# Altium footprint library Midas.PcbLib: 2 footprints
Each footprint in its own frame and in the unit in brackets; x right, y up, seen from the top. Pads: shape width x height; smd on the part's side, far side on the other; paste and mask are expansions set on the pad; w line width, h text height; cw(c..) or ccw(c..) is an arc to the next point about the centre after c.
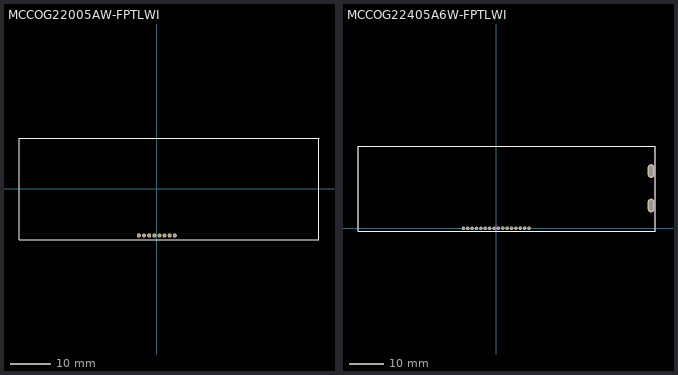
[diagram p0: the footprints below, top view; thin cyan lines are the x and y axes]

## MCCOG22005AW-FPTLWI [mm] "Alphanumeric LCD, 20x2"
pads (8):
  round 1 hole 0.6: 1(-4.45,-11.5) 2(-3.18,-11.5) 3(-1.91,-11.5) 4(-0.64,-11.5) 5(0.63,-11.5) 6(1.9,-11.5) 7(3.17,-11.5) 8(4.44,-11.5)
Top Overlay:
  lines w0.2: -28.1,-12.6 40.1,-12.6 40.1,12.6 ; -28.1,-12.6 -28.1,-12.6 ; -28.1,-12.6 -29.2,-12.6 -34.1,-12.6 -34.1,12.6 40.1,12.6 ; 40.1,12.6 40.1,12.6
3D body: height 6.3, standoff 3.5, extent -33,-11.5 33,11.5
3D body: height 3.5, standoff 0, extent -34.1,-11.5 40.1,12.6
3D body: height 3.5, standoff 0, extent 28.8,-12.6 40.1,-11.5
3D body: height 3.5, standoff 0, extent -34.1,-12.6 -29.2,-11.5

## MCCOG22405A6W-FPTLWI [mm] "Alphanumeric LCD, 24x2"
pads (18):
  round 1 hole 0.6: 1(-9.525,-0.03) 2(-8.255,-0.03) 3(-6.985,-0.03) 4(-5.715,-0.03) 5(-4.445,-0.03) 6(-3.175,-0.03) 7(-1.905,-0.03) 8(-0.635,-0.03) 9(0.64,0.04) 10(1.91,0.04) 11(3.18,0.04) 12(4.45,0.04) 13(5.72,0.04) 14(6.99,0.04) 15(8.26,0.04) 16(9.53,0.04)
  oval 2x4 hole 1 slot 3 at 90 deg: A(44.95,6.6) K(44.95,16.6)
Top Overlay:
  lines w0.2: -40.1,-0.9 -28.9,-0.9 -27.8,-0.9 46.1,-0.9 46.1,23.8 -40.1,23.8 -40.1,-0.9
Mechanical 15:
  lines w0.05: -40.1,-0.9 -40.1,23.8 46.1,23.8 46.1,-0.9 -40.1,-0.9
  lines w0.1: -1,0 1,0 ; 0,-1 0,1
3D body: height 3.5, standoff 0, extent 34.8,-0.9 46.1,0
3D body: height 3.5, standoff 0, extent -40.1,-0.85 -35.2,0.05
3D body: height 3.5, standoff 0, extent -40.1,0 46.1,23.8
3D body: height 5.8, standoff 3.5, extent -39,0.2 39,22.7
3D body: height 6, standoff 5.5, extent -36.1,8.8 36.2,20.6